# Altium footprint library DRV8825_STEPPER_MOTOR_DRIVER_CARRIER.PcbLib: 2 footprints
Each footprint in its own frame and in the unit in brackets; x right, y up, seen from the top. Pads: shape width x height; smd on the part's side, far side on the other; paste and mask are expansions set on the pad; w line width, h text height; cw(c..) or ccw(c..) is an arc to the next point about the centre after c.
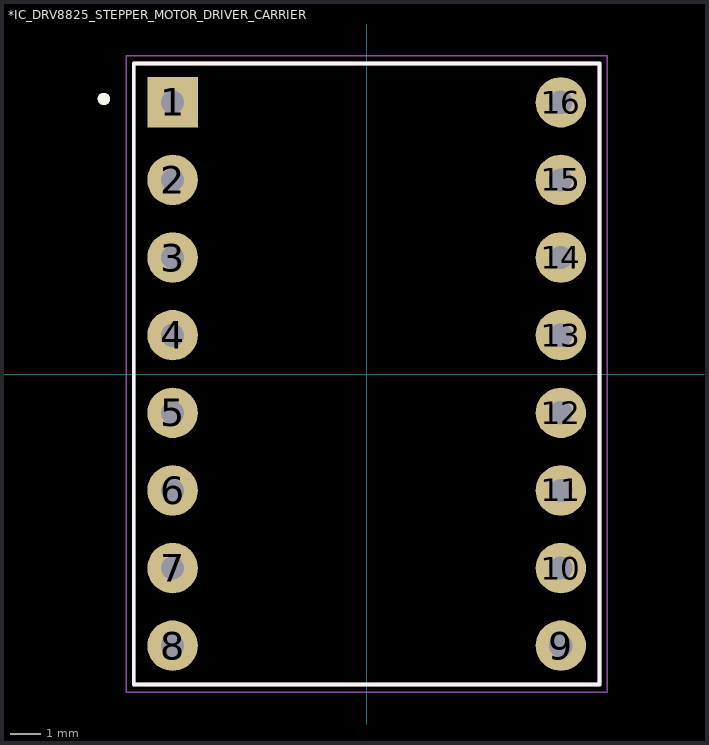
[diagram p0: the footprints below, top view; thin cyan lines are the x and y axes]

## *IC_DRV8825_STEPPER_MOTOR_DRIVER_CARRIER [mm]
pads (16):
  rect 1.65x1.65 hole 0.762: 1(-6.35,8.89)
  round 1.65 hole 0.762: 2(-6.35,6.35) 3(-6.35,3.81) 4(-6.35,1.27) 5(-6.35,-1.27) 6(-6.35,-3.81) 7(-6.35,-6.35) 8(-6.35,-8.89) 9(6.35,-8.89) 10(6.35,-6.35) 11(6.35,-3.81) 12(6.35,-1.27) 13(6.35,1.27) 14(6.35,3.81) 15(6.35,6.35) 16(6.35,8.89)
Top Overlay:
  circle w0.2: c-8.6,9 r0.1
  lines w0.127: -7.62,-10.16 -7.62,10.16 7.62,10.16 7.62,-10.16 -7.62,-10.16
Mechanical 13:
  circle w0.2: c-8.6,9 r0.1
  circle w0.2: c-8.6,9 r0.1
  lines w0.127: -7.62,-10.16 7.62,-10.16 ; -7.62,-10.16 -7.62,10.16 ; -7.62,-10.16 7.62,-10.16 ; -7.62,-10.16 -7.62,10.16 ; -7.62,10.16 7.62,10.16 ; -7.62,10.16 7.62,10.16 ; 7.62,-10.16 7.62,10.16 ; 7.62,-10.16 7.62,10.16
Mechanical 15:
  lines w0.05: -7.87,-10.41 7.87,-10.41 7.87,10.41 -7.87,10.41 -7.87,-10.41

## PCBComponent_1 [mm]